# Altium footprint library Components - 04.11.21 - 18.12.PcbLib: 4 footprints
Each footprint in its own frame and in the unit in brackets; x right, y up, seen from the top. Pads: shape width x height; smd on the part's side, far side on the other; paste and mask are expansions set on the pad; w line width, h text height; cw(c..) or ccw(c..) is an arc to the next point about the centre after c.
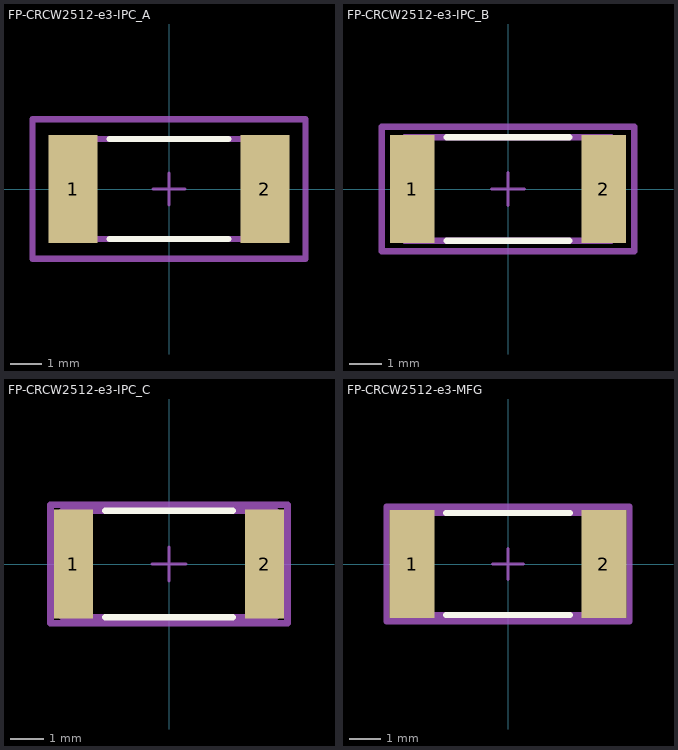
[diagram p0: the footprints below, top view; thin cyan lines are the x and y axes]

## FP-CRCW2512-e3-IPC_A [mm]
pads (2):
  rect 1.555x3.408 smd paste+0 mask+0: 1(-3.026,0) 2(3.026,0)
Top Overlay:
  lines w0.2: -1.873,-1.575 1.873,-1.575 ; -1.873,1.575 1.873,1.575
Top Assembly:
  lines w0.2: -4.303,-2.204 4.303,-2.204 4.303,2.204 -4.303,2.204 -4.303,-2.204
  text ".Designator" at 0,0.188 h1
Top 3D Body:
  lines w0.2: -3.15,-1.575 3.15,-1.575 3.15,1.575 -3.15,1.575 -3.15,-1.575
Top Courtyard:
  lines w0.2: -4.303,-2.204 4.303,-2.204 4.303,2.204 -4.303,2.204 -4.303,-2.204
Top Component Center:
  lines w0.1: -0.5,0 0.5,0 ; 0,-0.5 0,0.5
3D body "Res_Vishay_CRCW25121K80FKEG_eec.STEP": height 0.25, standoff 0, extent -4.303,-2.204 4.303,2.204

## FP-CRCW2512-e3-IPC_B [mm]
pads (2):
  rect 1.355x3.308 smd paste+0 mask+0: 1(-2.926,0) 2(2.926,0)
Top Overlay:
  lines w0.2: -1.873,-1.575 1.873,-1.575 ; -1.873,1.575 1.873,1.575
Top Assembly:
  lines w0.2: -3.853,-1.904 3.853,-1.904 3.853,1.904 -3.853,1.904 -3.853,-1.904
  text ".Designator" at 0,0.188 h1
Top 3D Body:
  lines w0.2: -3.15,-1.575 3.15,-1.575 3.15,1.575 -3.15,1.575 -3.15,-1.575
Top Courtyard:
  lines w0.2: -3.853,-1.904 3.853,-1.904 3.853,1.904 -3.853,1.904 -3.853,-1.904
Top Component Center:
  lines w0.1: -0.5,0 0.5,0 ; 0,-0.5 0,0.5
3D body "Res_Vishay_CRCW25121K80FKEG_eec.STEP": height 0.25, standoff 0, extent -3.853,-1.904 3.853,1.904

## FP-CRCW2512-e3-IPC_C [mm]
pads (2):
  rect 1.155x3.208 smd paste+0 mask+0: 1(-2.826,0) 2(2.826,0)
Top Overlay:
  lines w0.2: -1.873,-1.575 1.873,-1.575 ; -1.873,1.575 1.873,1.575
Top Assembly:
  lines w0.2: -3.503,-1.75 3.503,-1.75 3.503,1.75 -3.503,1.75 -3.503,-1.75
  text ".Designator" at 0,0.188 h1
Top 3D Body:
  lines w0.2: -3.15,-1.575 3.15,-1.575 3.15,1.575 -3.15,1.575 -3.15,-1.575
Top Courtyard:
  lines w0.2: -3.503,-1.75 3.503,-1.75 3.503,1.75 -3.503,1.75 -3.503,-1.75
Top Component Center:
  lines w0.1: -0.5,0 0.5,0 ; 0,-0.5 0,0.5
3D body "Res_Vishay_CRCW25121K80FKEG_eec.STEP": height 0.25, standoff 0, extent -3.503,-1.75 3.503,1.75

## FP-CRCW2512-e3-MFG [mm]
pads (2):
  rect 1.45x3.5 smd paste+0 mask+0: 1(-3.1,0) 2(3.1,0)
Top Overlay:
  lines w0.2: -2,-1.65 2,-1.65 ; -2,1.65 2,1.65
Top Assembly:
  lines w0.2: -3.925,-1.85 3.925,-1.85 3.925,1.85 -3.925,1.85 -3.925,-1.85
  text ".Designator" at 0,0.188 h1
Top 3D Body:
  lines w0.2: -3.25,-1.65 3.25,-1.65 3.25,1.65 -3.25,1.65 -3.25,-1.65
Top Courtyard:
  lines w0.2: -3.925,-1.85 3.925,-1.85 3.925,1.85 -3.925,1.85 -3.925,-1.85
Top Component Center:
  lines w0.1: -0.5,0 0.5,0 ; 0,-0.5 0,0.5
3D body "Res_Vishay_CRCW25121K80FKEG_eec.STEP": height 0.25, standoff 0, extent -3.925,-1.85 3.925,1.85